# EAGLE library part TMC5130A-TA (library Trinamic)
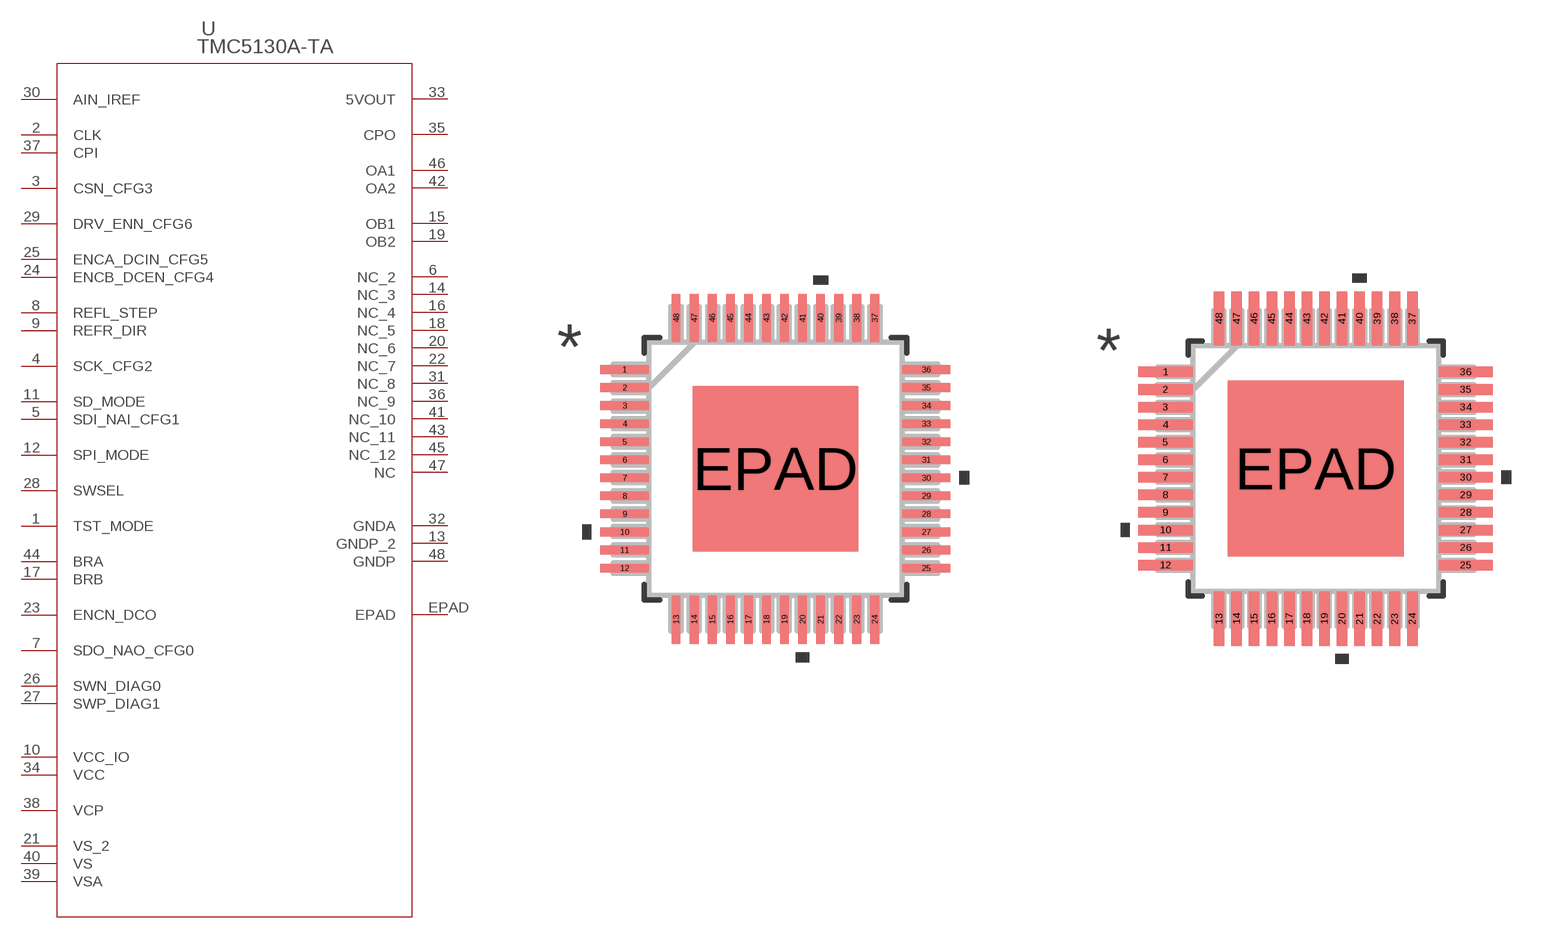
[diagram p0: symbol with the pads of ETQFP48_9X9; footprints ETQFP48_9X9, ETQFP48_9X9-M]

Designator prefix U

## TMC5130A-TA (BUILT_BY: EMA_Jessica; COPYRIGHT: Copyright (C) 2016 Accelerated Designs. All rights reserved; MANUFACTURER_PART_NUMBER: TMC5130A-TA; VENDOR: TRINAMIC)  [ETQFP48_9X9]
1  TST_MODE  in
2  CLK  in
3  CSN_CFG3  in
4  SCK_CFG2  in
5  SDI_NAI_CFG1  in
6  NC_2  nc
7  SDO_NAO_CFG0
8  REFL_STEP  in
9  REFR_DIR  in
10  VCC_IO  pwr
11  SD_MODE  in
12  SPI_MODE  in
13  GNDP_2  pwr
14  NC_3  nc
15  OB1  out
16  NC_4  nc
17  BRB  pas
18  NC_5  nc
19  OB2  out
20  NC_6  nc
21  VS_2  pwr
22  NC_7  nc
23  ENCN_DCO
24  ENCB_DCEN_CFG4  in
25  ENCA_DCIN_CFG5  in
26  SWN_DIAG0
27  SWP_DIAG1
28  SWSEL  in
29  DRV_ENN_CFG6  in
30  AIN_IREF  in
31  NC_8  nc
32  GNDA  pwr
33  5VOUT  out
34  VCC  pwr
35  CPO  out
36  NC_9  nc
37  CPI  in
38  VCP  pwr
39  VSA  pwr
40  VS  pwr
41  NC_10  nc
42  OA2  out
43  NC_11  nc
44  BRA  pas
45  NC_12  nc
46  OA1  out
47  NC  nc
48  GNDP  pwr
EPAD  EPAD  pas

## TMC5130A-TAETQFP48_9X9-M (BUILT_BY: EMA_Jessica; COPYRIGHT: Copyright (C) 2016 Accelerated Designs. All rights reserved; MANUFACTURER_PART_NUMBER: TMC5130A-TA; VENDOR: TRINAMIC)  [ETQFP48_9X9-M]
Pads as for ETQFP48_9X9

## TMC5130A-TAETQFP48_9X9-L (BUILT_BY: EMA_Jessica; COPYRIGHT: Copyright (C) 2016 Accelerated Designs. All rights reserved; MANUFACTURER_PART_NUMBER: TMC5130A-TA; VENDOR: TRINAMIC)  [ETQFP48_9X9-L]
Pads as for ETQFP48_9X9

## Footprint ETQFP48_9X9 (pad centres in mm)
smd 1.341 x 0.239: 1 -4.176,2.75; 2 -4.176,2.25; 3 -4.176,1.75; 4 -4.176,1.25; 5 -4.176,0.75; 6 -4.176,0.25; 7 -4.176,-0.25; 8 -4.176,-0.75; 9 -4.176,-1.25; 10 -4.176,-1.75; 11 -4.176,-2.25; 12 -4.176,-2.75; 25 4.176,-2.75; 26 4.176,-2.25; 27 4.176,-1.75; 28 4.176,-1.25; 29 4.176,-0.75; 30 4.176,-0.25; 31 4.176,0.25; 32 4.176,0.75; 33 4.176,1.25; 34 4.176,1.75; 35 4.176,2.25; 36 4.176,2.75
smd 0.239 x 1.341: 13 -2.75,-4.176; 14 -2.25,-4.176; 15 -1.75,-4.176; 16 -1.25,-4.176; 17 -0.75,-4.176; 18 -0.25,-4.176; 19 0.25,-4.176; 20 0.75,-4.176; 21 1.25,-4.176; 22 1.75,-4.176; 23 2.25,-4.176; 24 2.75,-4.176; 37 2.75,4.176; 38 2.25,4.176; 39 1.75,4.176; 40 1.25,4.176; 41 0.75,4.176; 42 0.25,4.176; 43 -0.25,4.176; 44 -0.75,4.176; 45 -1.25,4.176; 46 -1.75,4.176; 47 -2.25,4.176; 48 -2.75,4.176
smd 4.572 x 4.572: EPAD 0,0

## Footprint ETQFP48_9X9-M (pad centres in mm)
smd 1.541 x 0.299: 1 -4.276,2.75; 2 -4.276,2.25; 3 -4.276,1.75; 4 -4.276,1.25; 5 -4.276,0.75; 6 -4.276,0.25; 7 -4.276,-0.25; 8 -4.276,-0.75; 9 -4.276,-1.25; 10 -4.276,-1.75; 11 -4.276,-2.25; 12 -4.276,-2.75; 25 4.276,-2.75; 26 4.276,-2.25; 27 4.276,-1.75; 28 4.276,-1.25; 29 4.276,-0.75; 30 4.276,-0.25; 31 4.276,0.25; 32 4.276,0.75; 33 4.276,1.25; 34 4.276,1.75; 35 4.276,2.25; 36 4.276,2.75
smd 0.299 x 1.541: 13 -2.75,-4.276; 14 -2.25,-4.276; 15 -1.75,-4.276; 16 -1.25,-4.276; 17 -0.75,-4.276; 18 -0.25,-4.276; 19 0.25,-4.276; 20 0.75,-4.276; 21 1.25,-4.276; 22 1.75,-4.276; 23 2.25,-4.276; 24 2.75,-4.276; 37 2.75,4.276; 38 2.25,4.276; 39 1.75,4.276; 40 1.25,4.276; 41 0.75,4.276; 42 0.25,4.276; 43 -0.25,4.276; 44 -0.75,4.276; 45 -1.25,4.276; 46 -1.75,4.276; 47 -2.25,4.276; 48 -2.75,4.276
smd 5.004 x 5.004: EPAD 0,0

## Footprint ETQFP48_9X9-L (pad centres in mm)
smd 1.141 x 0.199: 1 -4.075,2.75; 2 -4.075,2.25; 3 -4.075,1.75; 4 -4.075,1.25; 5 -4.075,0.75; 6 -4.075,0.25; 7 -4.075,-0.25; 8 -4.075,-0.75; 9 -4.075,-1.25; 10 -4.075,-1.75; 11 -4.075,-2.25; 12 -4.075,-2.75; 25 4.075,-2.75; 26 4.075,-2.25; 27 4.075,-1.75; 28 4.075,-1.25; 29 4.075,-0.75; 30 4.075,-0.25; 31 4.075,0.25; 32 4.075,0.75; 33 4.075,1.25; 34 4.075,1.75; 35 4.075,2.25; 36 4.075,2.75
smd 0.199 x 1.141: 13 -2.75,-4.075; 14 -2.25,-4.075; 15 -1.75,-4.075; 16 -1.25,-4.075; 17 -0.75,-4.075; 18 -0.25,-4.075; 19 0.25,-4.075; 20 0.75,-4.075; 21 1.25,-4.075; 22 1.75,-4.075; 23 2.25,-4.075; 24 2.75,-4.075; 37 2.75,4.075; 38 2.25,4.075; 39 1.75,4.075; 40 1.25,4.075; 41 0.75,4.075; 42 0.25,4.075; 43 -0.25,4.075; 44 -0.75,4.075; 45 -1.25,4.075; 46 -1.75,4.075; 47 -2.25,4.075; 48 -2.75,4.075
smd 5.004 x 5.004: EPAD 0,0